# Altium integrated library OpenUltrasound_Components.IntLib: 26 symbols
Pins are listed as number, name and electrical type; pins without a type are passive.

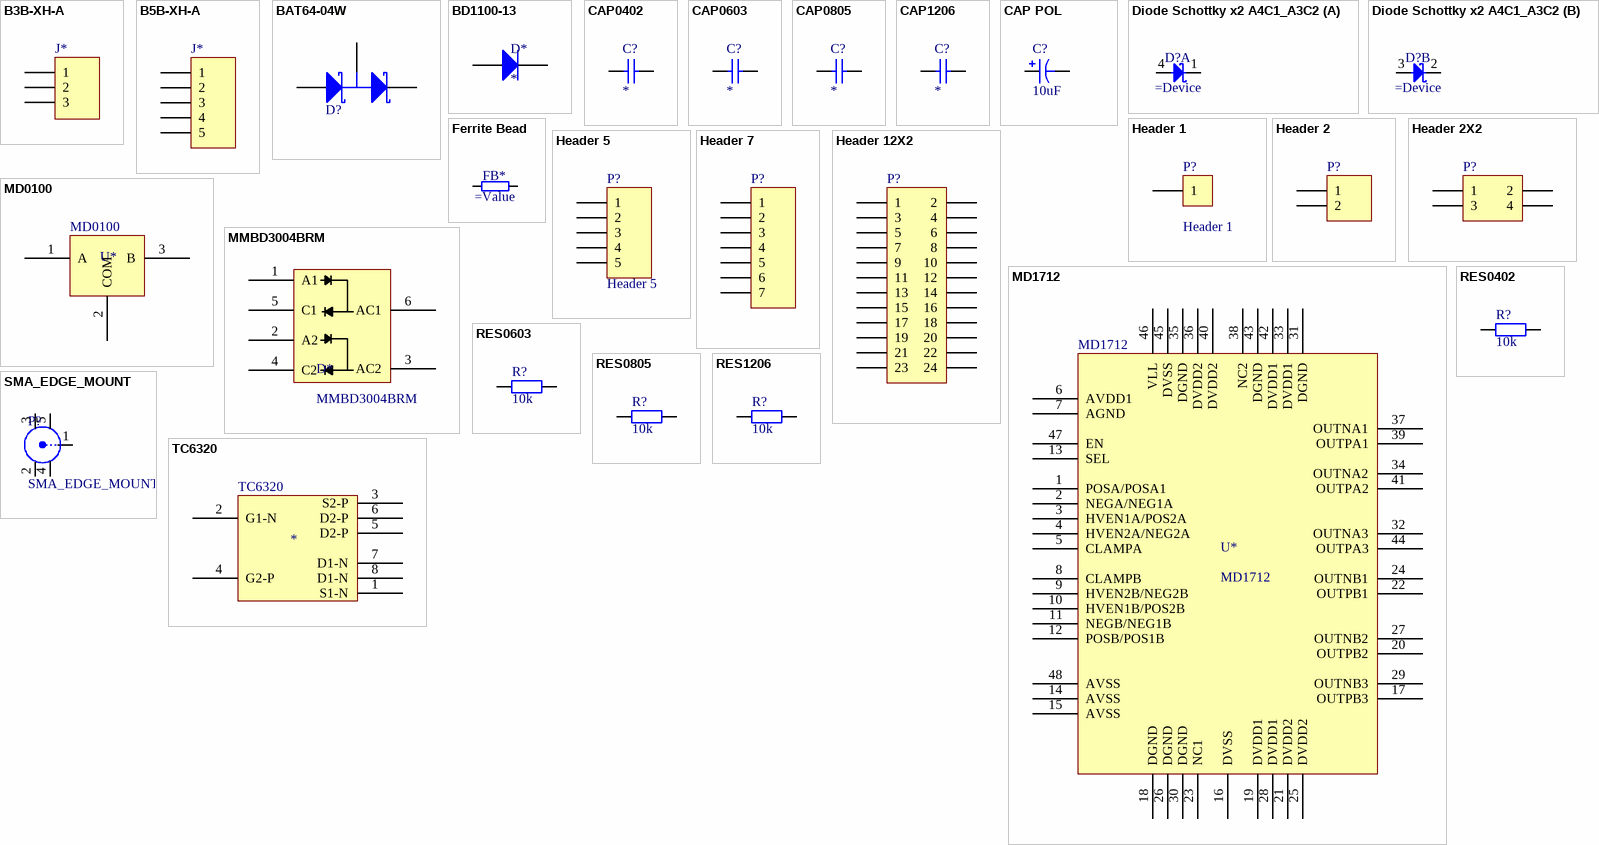
[diagram p0: symbols B3B-XH-A to TC6320]

## B3B-XH-A
designator J*, comment Header 3 - pin  (value not drawn)
Header, 3-pin; LatestRevisionDate: 17-Jul-2002; LatestRevisionNote: Re-released for DXP Platform.; Publisher: Altium Limited
footprint B3B-XH-A
pins: 1, 2, 3 (power)

## B5B-XH-A
designator J*, comment Header 5 - pin  (value not drawn)
Header, 5-pin; LatestRevisionDate: 17-Jul-2002; LatestRevisionNote: Re-released for DXP Platform.; Publisher: Altium Limited
footprint B5B-XH-A
pins: 1, 2, 3 (power), 4, 5

## BAT64-04W
designator D?
Silicon AF Schottky Diode for Low-Loss, Fast-Recovery, Meter Protection; Published: 21-Mar-2003; DatasheetDocument: Oct-1999; PackageDocument: Sep-2001; PackageReference: SOT-323; Publisher: Altium Limited; ComponentLink1Description: Manufacturer Link; ComponentLink1URL: http://www.infineon.com/; ComponentLink2Description: Datasheet; ComponentLink2URL: http://www.infineon.com/upload/Document/cmc_upload/documents/009/395/bat64series.pdf
footprint SOT-323 (SOT-323/SC-70; 3 Leads; Body 2.2 x 2.2 mm, inc. leads (LxW max))
pins: 1 A, 2 K, 3 C

## BD1100-13
designator D*
footprint ST DO214AC SMA (Molded Diode, 2-Leads, Body 4.30x2.60mm, IPC Medium Density)
pins: 1, 2

## CAP0402
designator C?
Capacitor; Value: *
footprint CAP1005X55N (Chip Capacitor, Body 1.0x0.55mm, IPC Medium Density - 0402)
pins: 1, 2
2 alternate drawings of the same symbol

## CAP0603
designator C?
Capacitor; Value: *
footprint CAP1608X85N (Chip Capacitor, Body 1.6x0.8mm IPC Medium  - 0603)
footprint CAP1608X100N (Capacitor, non-Polarized, Chip; 1.60mm L X 0.80mm W X 1.00mm H, IPC Medium Density - 0603)
pins: 1, 2
2 alternate drawings of the same symbol

## CAP0805
designator C?
Capacitor; Value: *
footprint CAP2012X88N (Chip Capacitor, Body 2.0x1.25mm, IPC Medium Density - 0805)
footprint CAP2012X140N (Chip Capacitor, Body 2.0x1.25mm, IPC Medium Density - 0805)
pins: 1, 2
2 alternate drawings of the same symbol

## CAP1206
designator C?
Capacitor; Value: *
footprint CAP3216X70N (Chip Capacitor, Body 3.2x1.6mm, IPC Medium Density - 1206)
footprint CAP3216X180N (Chip Capacitor, Body 3.2x1.6mm, IPC Medium Density - 1206)
pins: 1, 2
2 alternate drawings of the same symbol

## CAP POL
designator C?, comment 10uF
Polarized Capacitor (Radial Can SMD); Value: 10uF
footprint CAPAE530X540N (Capacitor, Aluminium Electrolytric, 5.3mm L X 5.3mm W X 5.4mm H, IPC Medium Density)
pins: 1, 2
2 alternate drawings of the same symbol

## Diode Schottky x2 A4C1_A3C2
designator D?
Serial Schottky Diode
footprint SOT143L (SOT143, 4-Leads, Body 2.9x1.3mm, Pitch 1.9mm, Lead Span 2.5mm, IPC High Density)
part A pins: 1 A2, 4 C1
part B pins: 2 C2, 3 A1

## Ferrite Bead
designator FB*
Ferrite Bead
footprint CAP1608X85N (Chip Capacitor, Body 1.6x0.8mm IPC Medium  - 0603)
pins: 1, 2

## Header 1
designator P?
Header, 1-Pin; LatestRevisionDate: 17-Jul-2002; LatestRevisionNote: Re-released for DXP Platform.; Publisher: Altium Limited
footprint HDR1X1 (Connector; Header; 1 Position)
pins: 1

## Header 2
designator P?
Header, 2-Pin; LatestRevisionDate: 17-Jul-2002; LatestRevisionNote: Re-released for DXP Platform.; Publisher: Altium Limited
footprint HDR1X2 (Connector; Header; 2 Position)
signal-integrity model Connector
pins: 1, 2

## Header 2X2
designator P?
Header, 2-Pin, Dual row; LatestRevisionDate: 17-Jul-2002; LatestRevisionNote: Re-released for DXP Platform.; Publisher: Altium Limited
footprint HDR2X2 (Connector; Header; 2x2 Position)
signal-integrity model Connector
pins: 1, 2, 3, 4

## Header 5
designator P?
Header, 5-Pin; LatestRevisionDate: 17-Jul-2002; LatestRevisionNote: Re-released for DXP Platform.; Publisher: Altium Limited
footprint HDR1X5 (Connector; Header; 5 Position)
signal-integrity model Connector
pins: 1, 2, 3, 4, 5

## Header 7
designator P?
Header, 7-Pin; LatestRevisionDate: 17-Jul-2002; LatestRevisionNote: Re-released for DXP Platform.; Publisher: Altium Limited
footprint HDR1X7 (Connector; Header; 7 Position)
signal-integrity model Connector
pins: 1, 2, 3, 4, 5, 6, 7

## Header 12X2
designator P?
Header, 12-Pin, Dual row; LatestRevisionDate: 17-Jul-2002; LatestRevisionNote: Re-released for DXP Platform.; Publisher: Altium Limited
footprint HDR2X12 (Connector; Header; 12x2 Position)
signal-integrity model Connector
pins: 1, 2, 3, 4, 5, 6, 7, 8, 9, 10, 11, 12, 13, 14, 15, 16, 17, 18, 19, 20, 21, 22, 23, 24

## MD0100
designator U*
High voltage protection T/R switch
footprint SOT89 (SOT-89; Body 4.6 x 4.25 mm, inc. leads (LxW max))
pins: 1 A, 2 COM, 3 B

## MD1712
designator U*
High Speed, Integrated Ultrasound Driver IC
footprint LQFP-48 (TSQFP, 48-Leads, Body 9,0x9,0mm (max), Pitch 0,50mm, IPC Medium Density)
pins: 1 POSA/POSA1 "Logic input control for channel A", 2 NEGA/NEG1A "Logic input control for channel A", 3 HVEN1A/POS2A, 4 HVEN2A/NEG2A, 5 CLAMPA "Usec with SEL = H. Logic input control for OUTPA3 and OUTNA3, connect to GND when SEL = L", 6 AVDD1 (power) "Supplies analog portion of the gate driver. Should be at the same potential as DVDD1", 7 AGND (power) "Analog Ground", 8 CLAMPB "Used with SEL=H. Logic input control for OUTPB3 and OUTNB3. COnnecto to ground when SEL=L", 9 HVEN2B/NEG2B, 10 HVEN1B/POS2B, 11 NEGB/NEG1B, 12 POSB/POS1B, 13 SEL "Logic input select.", 14 AVSS (power), 15 AVSS (power), 16 DVSS, 17 OUTPB3, 18 DGND (power), 19 DVDD1, 20 OUTPB2, 21 DVDD2 (power), 22 OUTPB1, 23 NC1, 24 OUTNB1, 25 DVDD2, 26 DGND, 27 OUTNB2, 28 DVDD1, 29 OUTNB3, 30 DGND, 31 DGND, 32 OUTNA3, 33 DVDD1, 34 OUTNA2, 35 DGND, 36 DVDD2, 37 OUTNA1, 38 NC2, 39 OUTPA1, 40 DVDD2, 41 OUTPA2, 42 DVDD1, 43 DGND, 44 OUTPA3, 45 DVSS, 46 VLL, 47 EN "Logic input enable control. When EN = L, all P-channel output drivers are high and all N-channel dirvers are low", 48 AVSS (power)

## MMBD3004BRM
designator D*
High Voltage Surface Mount Switching Diode Array
footprint SOT26A-6AN (SOT23, 6-Leads, Body 2.9x1.6mm, Pitch 0.95mm, Lead Span 2.5mm, IPC Medium Density)
pins: 1 A1, 2 A2, 3 AC2, 4 C2, 5 C1, 6 AC1

## RES0402
designator R?, comment 10k
Resistor; Value: 10k
footprint RESC1005X40N-0402 (Chip Resistor, EIA 0402, Metric 1005, Body 1.0x0.5mm, IPC Medium Density)
pins: 1, 2
2 alternate drawings of the same symbol

## RES0603
designator R?, comment 10k
Resistor; Value: 10k
footprint RESC1608X64N-0603 (Chip Resistor, EIA 0603, Metric 1608, Body 1.6x0.8mm, IPC Medium Density)
pins: 1, 2
2 alternate drawings of the same symbol

## RES0805
designator R?, comment 10k
Resistor; Value: 10k
footprint RESC2012X70N-0805 (Chip Resistor, EIA 0805, Metric 2012, Body 2.0x1.25mm, IPC Medium Density)
pins: 1, 2
2 alternate drawings of the same symbol

## RES1206
designator R?, comment 10k
Resistor; Value: 10k
footprint RESC3216X80N-1206 (Chip Resistor, EIA 1206, Metric 3216, Body 3.2x1.6mm, IPC Medium Density)
pins: 1, 2
2 alternate drawings of the same symbol

## SMA_EDGE_MOUNT
designator P?
BNC Elbow Connector; LatestRevisionDate: 17-Jul-2002; LatestRevisionNote: Re-released for DXP Platform.; Publisher: Altium Limited
footprint SMA-J-P-X-ST-EM1
pins: 1 X, 2 Y, 3, 4, 5

## TC6320
designator *  (value not drawn)
N- and P- Channel Enhancement-mode MOSFET pair
footprint SOIC127P600X175-8N (SOIC 8, Pitch 1.27mm - Body 4x5mm, IPC Medium Density)
pins: 1 S1-N, 2 G1-N, 3 S2-P, 4 G2-P, 5 D2-P, 6 D2-P, 7 D1-N, 8 D1-N